# EAGLE library part CH340E (library SamacSys_Parts)
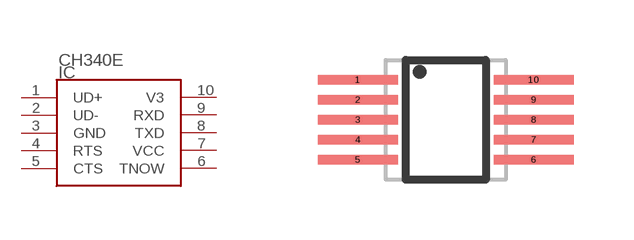
[diagram p15: symbol with the pads of MSOP-10; footprint MSOP-10]

Designator prefix IC

## CH340E  [MSOP-10]
1  UD+  pwr
2  UD-  pwr
3  GND  pwr
4  RTS
5  CTS
6  TNOW
7  VCC  pwr
8  TXD
9  RXD
10  V3  pwr

## Footprint MSOP-10 (pad centres in mm)
smd 2 x 0.245: 1 -2.2,1; 2 -2.2,0.5; 3 -2.2,0; 4 -2.2,-0.5; 5 -2.2,-1; 6 2.2,-1; 7 2.2,-0.5; 8 2.2,0; 9 2.2,0.5; 10 2.2,1